# EAGLE library part DAC7512 (library ds8)
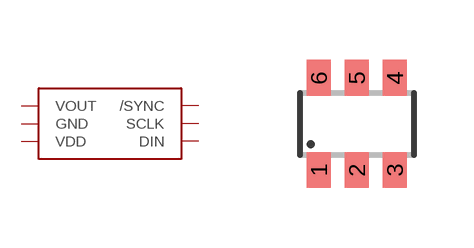
[diagram p3: symbol with the pads of SOT-23-6; footprint SOT-23-6]

Designator prefix -

## DAC7512  [SOT-23-6]
1  VOUT  out
2  GND  pwr
3  VDD  pwr
4  DIN
5  SCLK
6  /SYNC

## Footprint SOT-23-6 (pad centres in mm)
smd 0.6 x 0.9: 1 -0.95,-1.15; 2 0,-1.15; 3 0.95,-1.15; 4 0.95,1.15; 5 0,1.15; 6 -0.95,1.15